# Altium footprint library 3269W-1-500LF.PcbLib: 1 footprints
Each footprint in its own frame and in the unit in brackets; x right, y up, seen from the top. Pads: shape width x height; smd on the part's side, far side on the other; paste and mask are expansions set on the pad; w line width, h text height; cw(c..) or ccw(c..) is an arc to the next point about the centre after c.
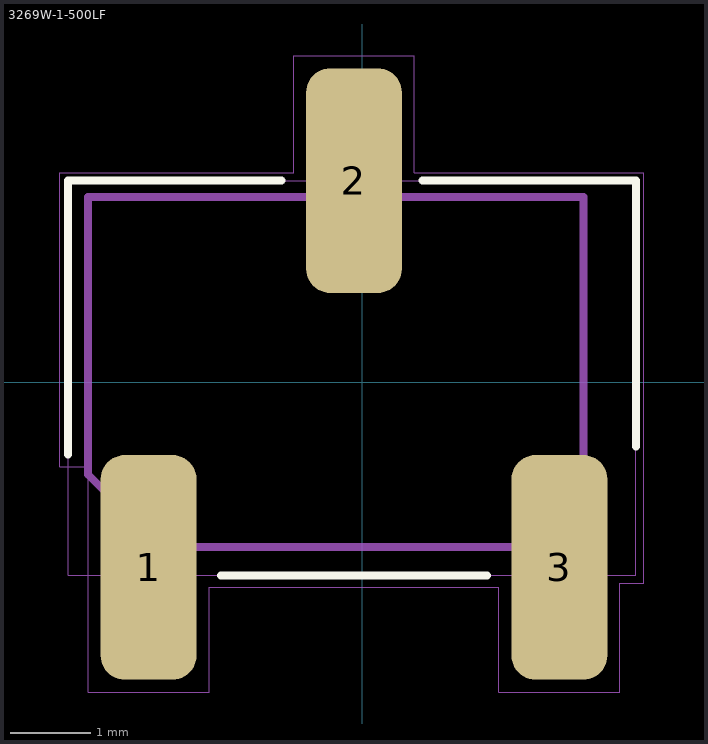
[diagram p0: the footprint, top view; thin cyan lines are the x and y axes]

## 3269W-1-500LF [mm]
pads (3):
  rrect50% 1.19x2.79 smd: 1(-2.65,-2.3) 2(-0.1,2.5) 3(2.45,-2.3)
Top Overlay:
  lines w0.1: -3.65,-0.9 -3.65,2.4 ; -3.65,2.3 -3.65,2.5 -1,2.5 ; -1.75,-2.4 1.55,-2.4 ; 0.75,2.5 3.4,2.5 3.4,-0.8
Mechanical 3:
  lines w0.1: 2.5,-2.05 2.75,-2.05 2.75,2.3 -3.4,2.3 -3.4,-1.15 -2.5,-2.05 2.6,-2.05
Mechanical 5:
  lines w0.01: -3.1,-2.4 -3.1,-3.5 -2.2,-3.5 -2.2,-2.4 ; -0.6,2.5 3.4,2.5 3.4,-2.4 -3.65,-2.4 -3.65,2.5 -0.5,2.5 ; -0.55,2.5 -0.55,3.6 0.35,3.6 0.35,2.5 ; 2,-2.4 2,-3.5 2.9,-3.5 2.9,-2.4
Mechanical 7:
  lines w0.01: -3.75,-1.05 -3.4,-1.05 -3.4,-3.85 -3.1,-3.85 -1.9,-3.85 -1.9,-2.55 1.7,-2.55 1.7,-3.85 3.2,-3.85 3.2,-2.5 3.45,-2.5 3.5,-2.5 3.5,2.6 0.65,2.6 0.65,4.05 -0.85,4.05 -0.85,2.6 -3.75,2.6 -3.75,-1.05
Mechanical 9:
  text "'.Designator'" at -5.9,0 h1
3D body "3269W.stp": height 8.33, standoff -0.05, extent -3.453,-3.162 3.253,3.315
3D body: height 1, standoff 0, extent -3.75,-3.85 3.5,2.6